# Altium footprint library components.PcbLib: 21 footprints (part 1 of 2)
Each footprint in its own frame and in the unit in brackets; x right, y up, seen from the top. Pads: shape width x height; smd on the part's side, far side on the other; paste and mask are expansions set on the pad; w line width, h text height; cw(c..) or ccw(c..) is an arc to the next point about the centre after c.
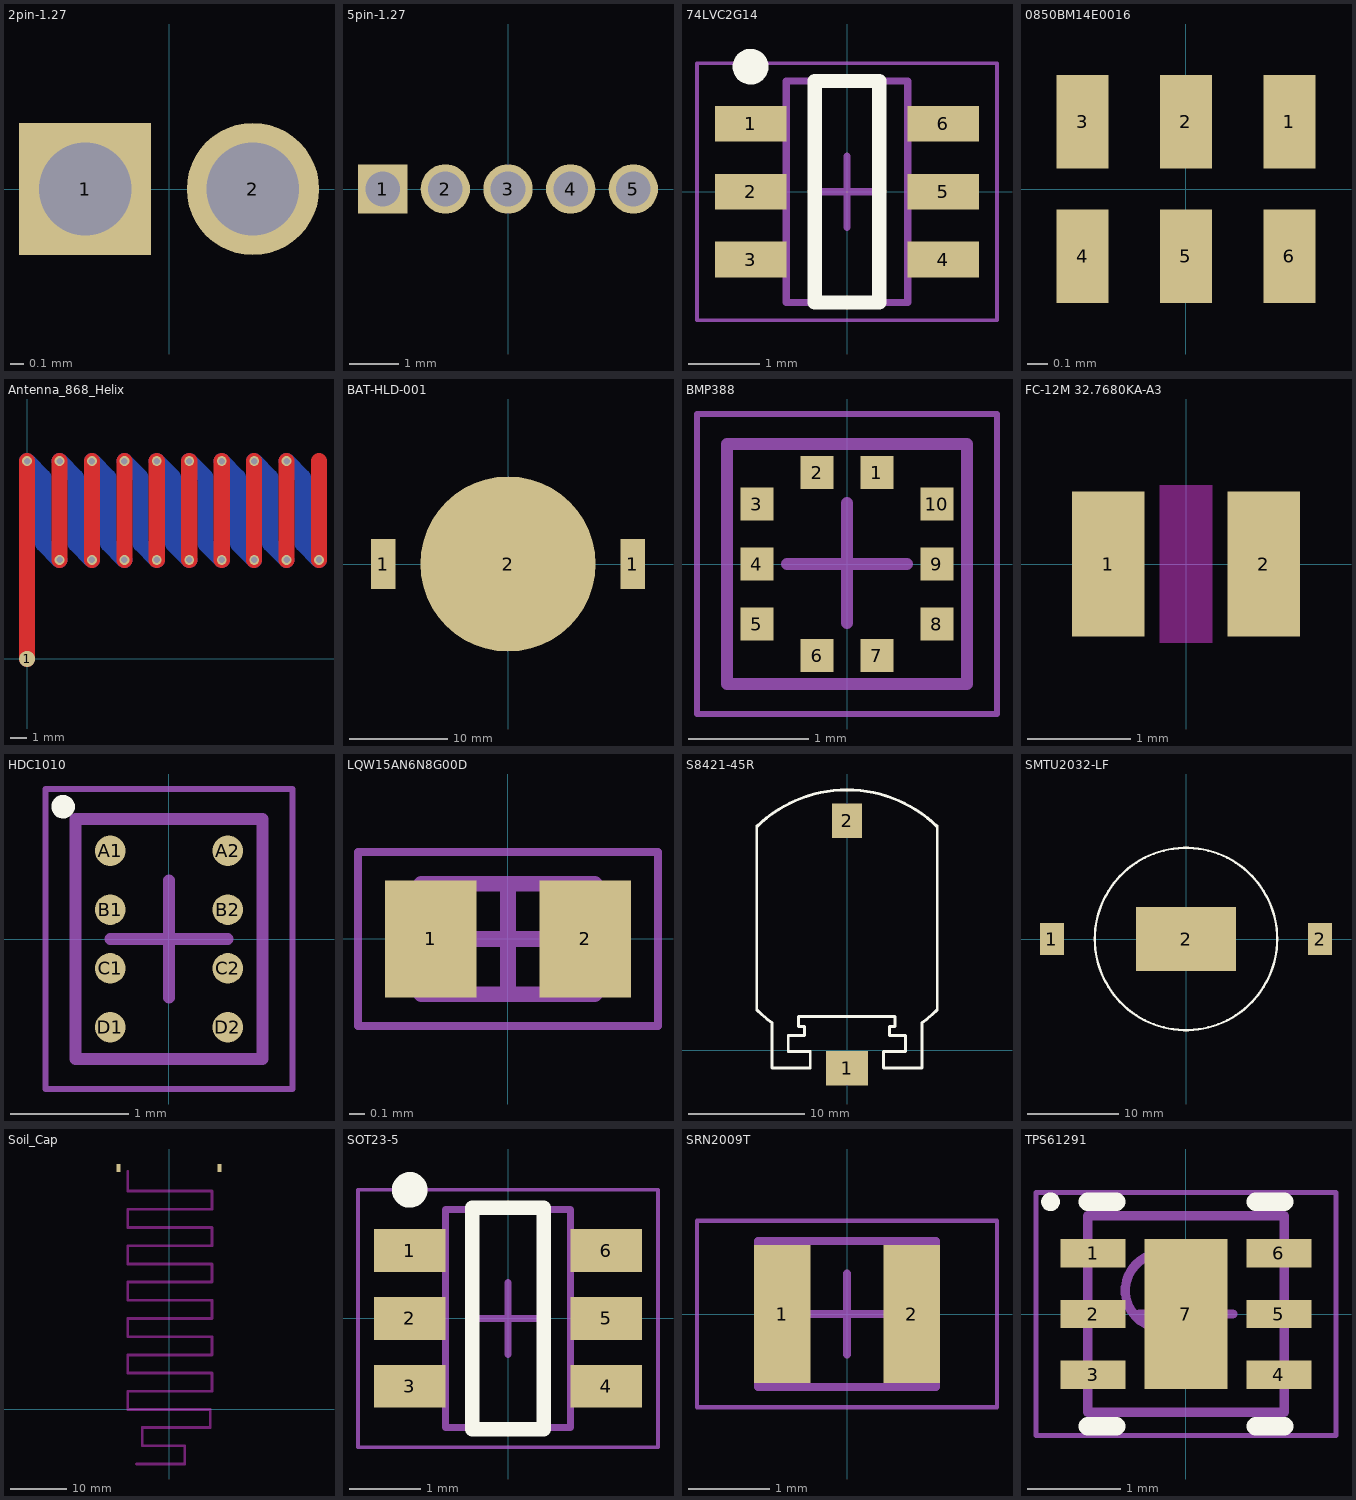
[diagram p0: the footprints below, top view; thin cyan lines are the x and y axes]

## 2pin-1.27 [mm]
pads (2):
  rect 1x1 hole 0.7: 1(-0.635,0)
  round 1 hole 0.7: 2(0.635,0)

## 5pin-1.27 [mm]
pads (5):
  rect 1x1 hole 0.7: 1(-2.54,0)
  round 1 hole 0.7: 2(-1.27,0) 3(0,0) 4(1.27,0) 5(2.54,0)

## 74LVC2G14 [mm] "TSOP, 6-Leads, Body 2,90x1,50mm, Pitch 0,95mm, IPC Medium Density"
height 1.1
pads (6):
  rect 1x0.5 smd: 1(-1.35,0.95) 2(-1.35,0) 3(-1.35,-0.95) 4(1.35,-0.95) 5(1.35,0) 6(1.35,0.95)
Top Overlay:
  circle w0.25: c-1.35,1.75 r0.125
  lines w0.2: -0.45,-1.55 -0.45,1.55 0.45,1.55 0.45,-1.55 -0.45,-1.55
Mechanical 13:
  lines w0.1: -0.85,-1.55 -0.85,1.55 0.85,1.55 0.85,-1.55 -0.85,-1.55
Mechanical 15:
  lines w0.05: -2.1,-1.8 -2.1,1.8 2.1,1.8 2.1,-1.8 -2.1,-1.8
  lines w0.1: -0.5,0 0.5,0 ; 0,-0.5 0,0.5
3D body "74LVC2G14_2.step": height 1.1, standoff 0, extent -1.375,-1.55 1.375,1.55

## 0850BM14E0016 [mm]
pads (6):
  rect 0.25x0.45 smd: 1(0.5,0.325) 2(0,0.325) 3(-0.5,0.325) 4(-0.5,-0.325) 5(0,-0.325) 6(0.5,-0.325)
3D body: height 1, standoff 0, extent -0.737,-0.66 0.737,0.66

## Antenna_868_Helix [mm]
pads (1):
  round 1 smd: 1(0,0)
via 0,12.2 diameter 0.6 hole 0.4
via 2,6.1 diameter 0.6 hole 0.4
via 2,12.2 diameter 0.6 hole 0.4
via 4,12.2 diameter 0.6 hole 0.4
via 6,12.2 diameter 0.6 hole 0.4
via 8,12.2 diameter 0.6 hole 0.4
via 10,12.2 diameter 0.6 hole 0.4
via 12,12.2 diameter 0.6 hole 0.4
via 14,12.2 diameter 0.6 hole 0.4
via 16,12.2 diameter 0.6 hole 0.4
via 18,6.1 diameter 0.6 hole 0.4
via 16,6.1 diameter 0.6 hole 0.4
via 14,6.1 diameter 0.6 hole 0.4
via 12,6.1 diameter 0.6 hole 0.4
via 10,6.1 diameter 0.6 hole 0.4
via 8,6.1 diameter 0.6 hole 0.4
via 6,6.1 diameter 0.6 hole 0.4
via 4,6.1 diameter 0.6 hole 0.4
Top Layer:
  lines w1: 0,0 0,12.2 ; 2,6.1 2,12.2 ; 4,6.1 4,12.2 ; 6,6.1 6,12.2 ; 8,6.1 8,12.2 ; 10,6.1 10,12.2 ; 12,6.1 12,12.2 ; 14,6.1 14,12.2 ; 16,6.1 16,12.2 ; 18,6.1 18,12.2
Bottom Layer:
  lines w1: 0,12.2 1,11.2 1,7.1 2,6.1 ; 2,12.2 3,11.2 3,7.1 4,6.1 ; 4,12.2 5,11.2 5,7.1 6,6.1 ; 6,12.2 7,11.2 7,7.1 8,6.1 ; 8,12.2 9,11.2 9,7.1 10,6.1 ; 10,12.2 11,11.2 11,7.1 12,6.1 ; 12,12.2 13,11.2 13,7.1 14,6.1 ; 14,12.2 15,11.2 15,7.1 16,6.1 ; 16,12.2 17,11.2 17,7.1 18,6.1

## BAT-HLD-001 [mm]
height 4.2
pads (3):
  rect 2.5x5.1 smd: 1(-12.7,0) 1(12.7,0)
  round 17.8 smd: 2(0,0)

## BMP388 [mm] "LGA, 10-Leads, Body 2,00x2,00mmx0,80mm, Pitch 0,50mm"
height 2
pads (10):
  rect 0.275x0.275 smd: 1(0.25,0.762) 2(-0.25,0.762) 3(-0.75,0.5) 4(-0.75,0) 5(-0.75,-0.5) 6(-0.25,-0.763) 7(0.25,-0.763) 8(0.75,-0.5) 9(0.75,0) 10(0.75,0.5)
Mechanical 13:
  lines w0.1: -1,-1 -1,1 1,1 1,-1 -1,-1
Mechanical 15:
  lines w0.05: -1.25,-1.25 -1.25,1.25 1.25,1.25 1.25,-1.25 -1.25,-1.25
  lines w0.1: -0.5,0 0.5,0 ; 0,-0.492 0,0.508
3D body "BMP388.step": height 0.8, standoff 0, extent -1.025,-1.025 1.025,1.025
3D body: height 30, standoff 10.1, extent 1.651,0.381 1.651,0.381

## FC-12M 32.7680KA-A3 [mm]
height 2
pads (2):
  rect 0.7x1.4 smd: 1(-0.75,0) 2(0.75,0)
Keep-Out Layer:
  rectangle: -0.254,-0.762 0.254,0.762
3D body: height 0.25, standoff 0, extent -1.194,0.787 -1.194,0.787
3D body: height 1, standoff 0, extent -1.194,-0.787 1.194,0.787

## HDC1010 [mm] "BGA, 8-Leads, Body 1,59x2,04mmx0,68mm, Pitch 0,50mm"
height 0.68
pads (8):
  round 0.26 smd: A1(-0.5,0.75) A2(0.5,0.75) B1(-0.5,0.25) B2(0.5,0.25) C1(-0.5,-0.25) C2(0.5,-0.25) D1(-0.5,-0.75) D2(0.5,-0.75)
Top Overlay:
  circle w0.1: c-0.9,1.125 r0.05
Mechanical 13:
  lines w0.1: -0.795,-1.02 -0.795,1.02 0.795,1.02 0.795,-1.02 -0.795,-1.02
Mechanical 15:
  lines w0.05: -1.05,-1.275 -1.05,1.275 1.05,1.275 1.05,-1.275 -1.05,-1.275
  lines w0.1: -0.5,0 0.5,0 ; 0,-0.5 0,0.5
3D body "HDC1010.step": height 0.67, standoff 0, extent -0.795,-1.02 0.795,1.02

## LQW15AN6N8G00D [mm] "Chip Inductor, 2-Leads, Body 1,00x0,60mm, IPC Medium Density"
height 0.5
pads (2):
  rect 0.58x0.74 smd: 1(-0.49,0) 2(0.49,0)
Mechanical 13:
  lines w0.1: -0.55,-0.35 -0.55,0.35 0.55,0.35 0.55,-0.35 -0.55,-0.35
Mechanical 15:
  lines w0.05: -0.95,-0.55 -0.95,0.55 0.95,0.55 0.95,-0.55 -0.95,-0.55
  lines w0.1: -0.35,0 0.35,0 ; 0,-0.35 0,0.35
3D body "LQW15AN6N8G00D.step": height 0.5, standoff 0, extent -0.55,-0.35 0.55,0.35

## S8421-45R [mm]
pads (2):
  rect 3.6x3 smd: 1(0,-1.556)
  rect 2.6x3 smd: 2(0,19.844)
Top Overlay:
  lines w0.254: -7.8,19.318 cw(c0,11.351) 7.8,19.318 ; -7.8,19.368 -7.8,3.487 ccw(c0.027,11.428) -6.501,2.389 ; -6.5,2.362 -6.5,-1.556 -3.175,-1.556 -3.175,-0.127 -5.08,-0.127 -5.08,1.27 -3.683,1.27 -3.683,2.032 -4.191,2.032 -4.191,2.921 4.164,2.921 4.164,2.032 3.656,2.032 3.656,1.27 5.053,1.27 5.053,-0.127 3.148,-0.127 3.148,-1.556 6.5,-1.556 6.5,2.362 ; 6.501,2.389 ccw(c-0.027,11.428) 7.8,3.487 7.8,19.368
3D body: height 4.7, standoff 0, extent -11.036,-3.188 11.036,22.788

## SMTU2032-LF [mm]
pads (3):
  rect 2.6x3.5 smd: 1(-14.7,0) 2(14.7,0)
  rect 11x7 smd: 2(0,0)
Top Overlay:
  circle w0.254: c0,0 r10

## Soil_Cap [mm]
pads (2):
  rect 0.7x1.4 smd: 1(-9,43) 2(9,43)
Keep-Out Layer:
  lines w0.5: -7.339,42.393 -7.339,38.867 7.661,38.867 7.661,35.628 -7.339,35.628 -7.339,32.389 7.661,32.389 7.661,29.15 -7.339,29.15 -7.339,25.911 7.661,25.911 7.661,22.672 -7.339,22.672 -7.339,19.434 7.661,19.434 7.661,16.195 -7.339,16.195 -7.339,12.956 7.661,12.956 7.661,9.717 -7.339,9.717 -7.339,6.478 7.661,6.478 7.661,3.239 -7.339,3.239 -7.339,0 7.339,0 7.339,-3.239 -4.749,-3.239 -4.749,-6.478 2.803,-6.478 2.803,-9.717 -5.777,-9.717

## SOT23-5 [mm] "SOT23, 5-Leads, Body 2,90x2,80mm, Pitch 0,95mm, IPC Medium Density"
height 1.45
pads (6):
  rect 1x0.6 smd: 1(-1.375,0.95) 2(-1.375,0) 3(-1.375,-0.95) 4(1.375,-0.95) 5(1.375,0) 6(1.375,0.95)
Top Overlay:
  circle w0.25: c-1.375,1.8 r0.125
  lines w0.2: -0.5,-1.55 0.5,-1.55 0.5,1.55 -0.5,1.55 -0.5,-1.55
Mechanical 13:
  lines w0.1: -0.875,-1.525 -0.875,1.525 0.875,1.525 0.875,-1.525 -0.875,-1.525
Mechanical 15:
  lines w0.05: -2.1,-1.8 -2.1,1.8 2.1,1.8 2.1,-1.8 -2.1,-1.8
  lines w0.1: -0.5,0 0.5,0 ; 0,-0.5 0,0.5
3D body "SOT23-5.step": height 1.45, standoff 0, extent -1.5,-1.525 1.5,1.525

## SRN2009T [mm] "Molded Inductor, 2-Leads, Body 2,00x1,60mm, IPC Medium Density"
height 0.95
pads (2):
  rect 0.7x1.7 smd: 1(-0.8,0) 2(0.8,0)
Mechanical 13:
  lines w0.1: -1.1,-0.9 1.1,-0.9 1.1,0.9 -1.1,0.9 -1.1,-0.9
Mechanical 15:
  lines w0.05: -1.85,-1.15 1.85,-1.15 1.85,1.15 -1.85,1.15 -1.85,-1.15
  lines w0.1: -0.5,0 0.5,0 ; 0,-0.5 0,0.5
3D body "INDM2016X10N.step": height 0.95, standoff 0, extent -1.32,-0.9 1.32,0.9

## TPS61291 [mm] "SON, 6-Leads, Body 2,00x2,00mm, Pitch 0,65mm, Thermal Pad 1,60x0,89mm, IPC Medium Density"
height 0.8
pads (7):
  rect 0.7x0.3 smd: 1(-0.995,0.65) 2(-0.995,0) 3(-0.995,-0.65) 4(0.995,-0.65) 5(0.995,0) 6(0.995,0.65)
  rect 0.89x1.6 smd: 7(0,0)
Top Overlay:
  circle w0.1: c-1.45,1.2 r0.05
  lines w0.2: -1.05,-1.2 -0.745,-1.2 ; -1.05,1.2 -0.745,1.2 ; 0.745,-1.2 1.05,-1.2 ; 0.745,1.2 1.05,1.2
Mechanical 13:
  circle w0.1: c-0.25,0.25 r0.4
  lines w0.1: -1.05,-1.05 -1.05,1.05 1.05,1.05 1.05,-1.05 -1.05,-1.05
Mechanical 15:
  lines w0.05: -1.605,-1.3 -1.605,1.3 1.605,1.3 1.605,-1.3 -1.605,-1.3
  lines w0.1: -0.5,0 0.5,0 ; 0,-0.5 0,0.5
3D body "TPS61291.step": height 0.8, standoff 0, extent -1.13,-1.05 1.13,1.05